# EAGLE library part LTC1050CS8#TRPBF (library LTC1050CS8#TRPBF)
Zero-Drift Amplifier Circuit 8-SO Source: Datasheet <http://www.linear.com/docs/1770>
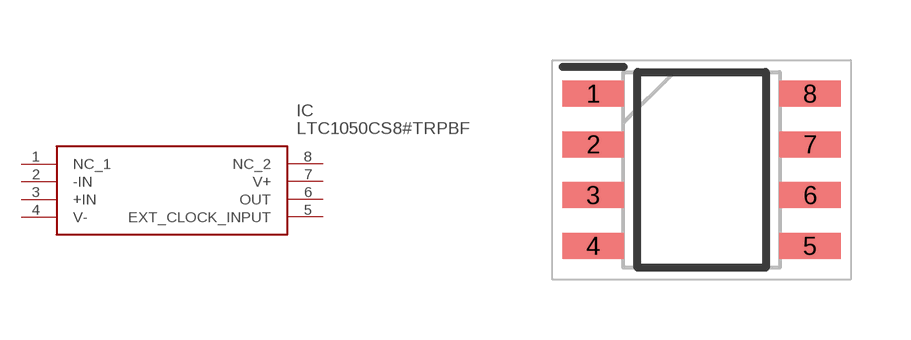
[diagram p0: symbol with the pads of SOIC127P599X175-8N; footprint SOIC127P599X175-8N]

Designator prefix IC

## LTC1050CS8#TRPBF (Arrow_Part_Number: LTC1050CS8#TRPBF; Arrow_Price-Stock: https://www.arrow.com/en/products/ltc1050cs8trpbf/analog-devices?region=nac; Description: Zero-Drift Amplifier Circuit 8-SO; Height: 1.752mm; Manufacturer_Name: Analog Devices; Manufacturer_Part_Number: LTC1050CS8#TRPBF; Mouser_Part_Number: 584-LTC1050CS8#TRPBF; Mouser_Price-Stock: https://www.mouser.co.uk/ProductDetail/Analog-Devices/LTC1050CS8TRPBF?qs=hVkxg5c3xu%252BAz6PQseXWvA%3D%3D)  [SOIC127P599X175-8N]
1  NC_1
2  -IN
3  +IN
4  V-
5  EXT_CLOCK_INPUT
6  OUT
7  V+
8  NC_2

## Footprint SOIC127P599X175-8N (pad centres in mm)
S8-ren3
smd 1.526 x 0.65: 1 -2.712,1.905; 2 -2.712,0.635; 3 -2.712,-0.635; 4 -2.712,-1.905; 5 2.712,-1.905; 6 2.712,-0.635; 7 2.712,0.635; 8 2.712,1.905